# Altium footprint library Connector_PinSocket_2.00mm.PcbLib: 278 footprints (part 5 of 18)
Each footprint in its own frame and in the unit in brackets; x right, y up, seen from the top. Pads: shape width x height; smd on the part's side, far side on the other; paste and mask are expansions set on the pad; w line width, h text height; cw(c..) or ccw(c..) is an arc to the next point about the centre after c.
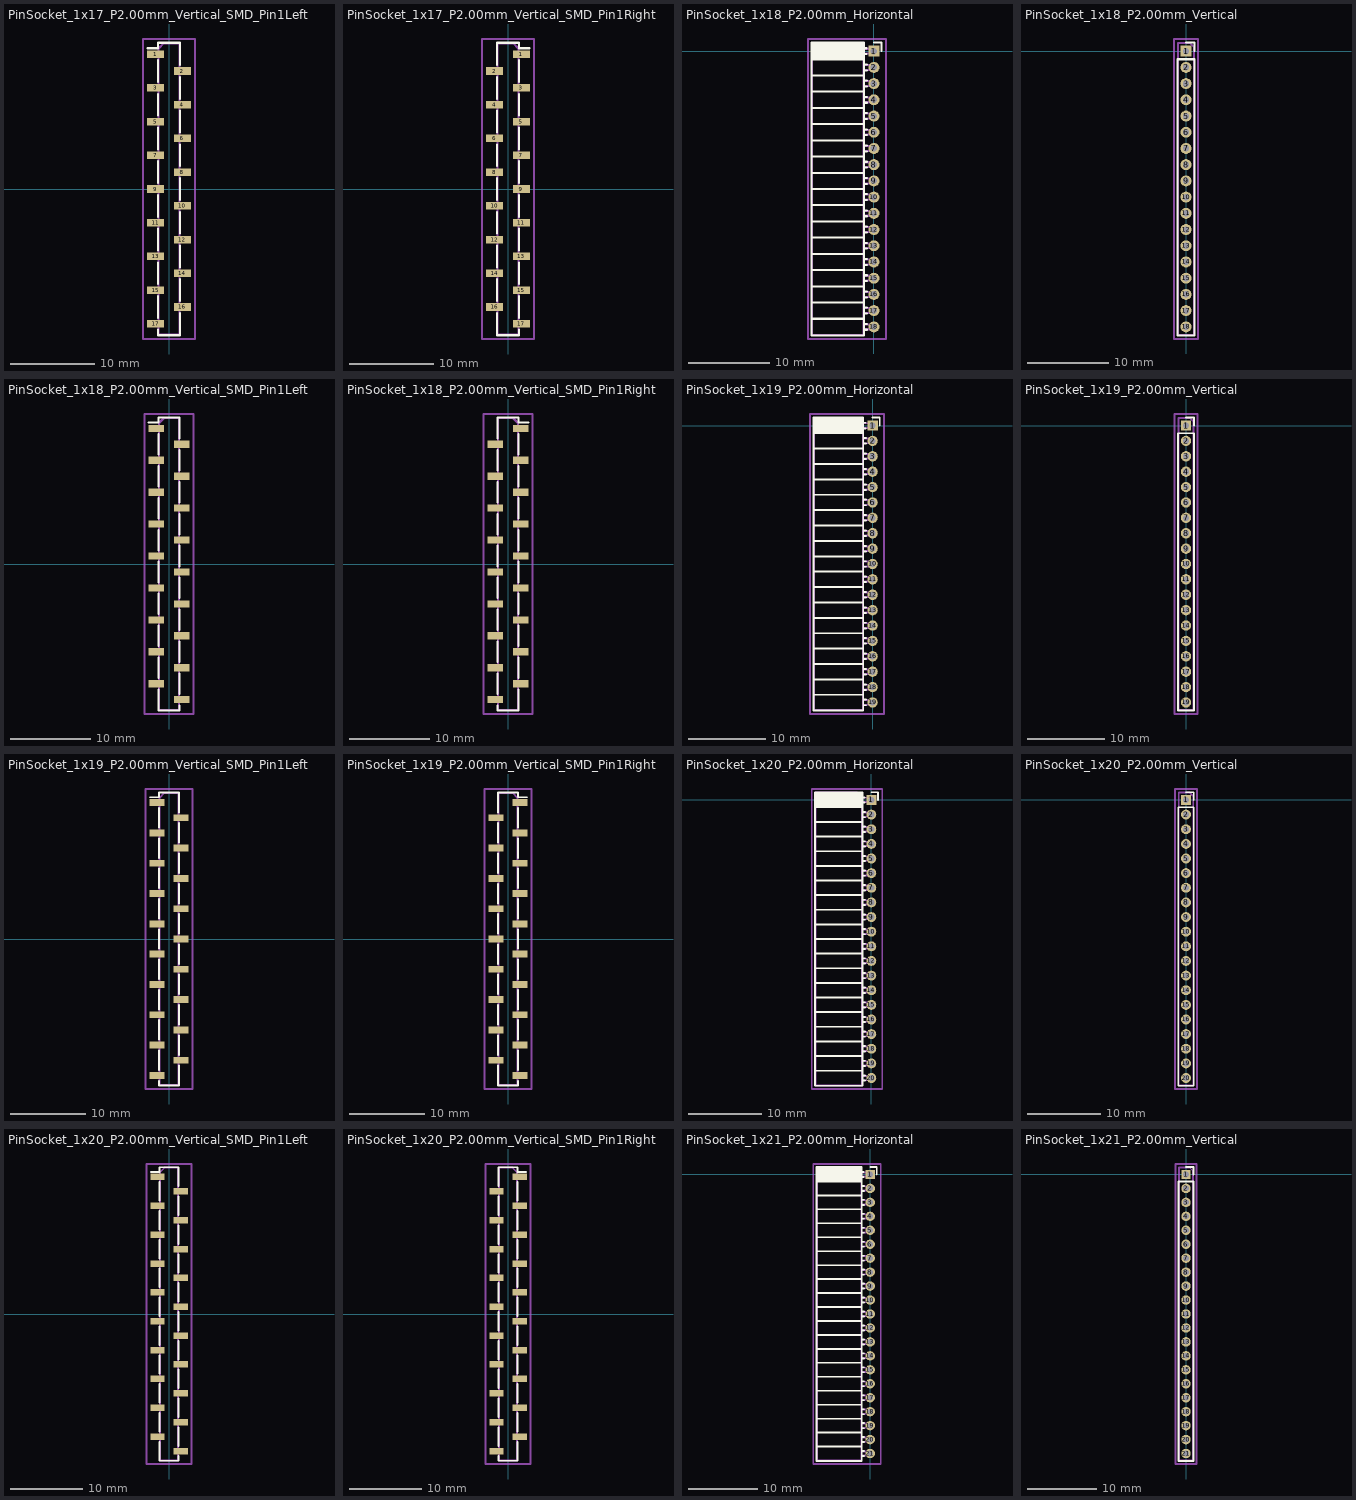
[diagram p4: the footprints below, top view; thin cyan lines are the x and y axes]

## PinSocket_1x17_P2.00mm_Vertical_SMD_Pin1Left [mm]
pads (17):
  rect 2x0.9 smd: 1(-1.6,16) 2(1.6,14) 3(-1.6,12) 4(1.6,10) 5(-1.6,8) 6(1.6,6) 7(-1.6,4) 8(1.6,2) 9(-1.6,0) 10(1.6,-2) 11(-1.6,-4) 12(1.6,-6) 13(-1.6,-8) 14(1.6,-10) 15(-1.6,-12) 16(1.6,-14) 17(-1.6,-16)
F.SilkS:
  lines w0.254: -2.54,16.71 -1.31,16.71 -1.31,17.36 1.31,17.36 1.31,14.71 ; -1.31,-16.71 -1.31,-17.36 1.31,-17.36 1.31,-14.71 ; -1.31,-15.29 -1.31,-12.71 ; -1.31,-11.29 -1.31,-8.71 ; -1.31,-7.29 -1.31,-4.71 ; -1.31,-3.29 -1.31,-0.71 ; -1.31,0.71 -1.31,3.29 ; -1.31,4.71 -1.31,7.29 ; -1.31,8.71 -1.31,11.29 ; -1.31,12.71 -1.31,15.29 ; 1.31,-13.29 1.31,-10.71 ; 1.31,-9.29 1.31,-6.71 ; 1.31,-5.29 1.31,-2.71 ; 1.31,-1.29 1.31,1.29 ; 1.31,2.71 1.31,5.29 ; 1.31,6.71 1.31,9.29 ; 1.31,10.71 1.31,13.29
Top Assembly:
  lines w0.254: -1.25,-16.25 -2.1,-16.25 -2.1,-15.75 -1.25,-15.75 ; -1.25,-12.25 -2.1,-12.25 -2.1,-11.75 -1.25,-11.75 ; -1.25,-8.25 -2.1,-8.25 -2.1,-7.75 -1.25,-7.75 ; -1.25,-4.25 -2.1,-4.25 -2.1,-3.75 -1.25,-3.75 ; -1.25,-0.25 -2.1,-0.25 -2.1,0.25 -1.25,0.25 ; -1.25,3.75 -2.1,3.75 -2.1,4.25 -1.25,4.25 ; -1.25,7.75 -2.1,7.75 -2.1,8.25 -1.25,8.25 ; -1.25,11.75 -2.1,11.75 -2.1,12.25 -1.25,12.25 ; -1.25,15.75 -2.1,15.75 -2.1,16.25 -1.25,16.25 ; 1.25,-14.25 2.1,-14.25 2.1,-13.75 1.25,-13.75 ; 1.25,-10.25 2.1,-10.25 2.1,-9.75 1.25,-9.75 ; 1.25,-6.25 2.1,-6.25 2.1,-5.75 1.25,-5.75 ; 1.25,-2.25 2.1,-2.25 2.1,-1.75 1.25,-1.75 ; 1.25,1.75 2.1,1.75 2.1,2.25 1.25,2.25 ; 1.25,5.75 2.1,5.75 2.1,6.25 1.25,6.25 ; 1.25,9.75 2.1,9.75 2.1,10.25 1.25,10.25 ; 1.25,13.75 2.1,13.75 2.1,14.25 1.25,14.25 ; -1.25,-17.3 1.25,-17.3 1.25,17.3 -0.625,17.3 -1.25,16.675 -1.25,-17.3
  text "'.Designator'" at 0.84,-4.047 h1
Top Courtyard:
  lines w0.254: -3.1,-17.8 3.1,-17.8 3.1,17.8 -3.1,17.8 -3.1,-17.8
Top Designator:
  text ".Designator" at -7.618,-0.508 h1.52

## PinSocket_1x17_P2.00mm_Vertical_SMD_Pin1Right [mm]
pads (17):
  rect 2x0.9 smd: 1(1.6,16) 2(-1.6,14) 3(1.6,12) 4(-1.6,10) 5(1.6,8) 6(-1.6,6) 7(1.6,4) 8(-1.6,2) 9(1.6,0) 10(-1.6,-2) 11(1.6,-4) 12(-1.6,-6) 13(1.6,-8) 14(-1.6,-10) 15(1.6,-12) 16(-1.6,-14) 17(1.6,-16)
F.SilkS:
  lines w0.254: -1.31,-14.71 -1.31,-17.36 1.31,-17.36 1.31,-16.71 ; -1.31,-13.29 -1.31,-10.71 ; -1.31,-9.29 -1.31,-6.71 ; -1.31,-5.29 -1.31,-2.71 ; -1.31,-1.29 -1.31,1.29 ; -1.31,2.71 -1.31,5.29 ; -1.31,6.71 -1.31,9.29 ; -1.31,10.71 -1.31,13.29 ; -1.31,14.71 -1.31,17.36 1.31,17.36 1.31,16.71 2.54,16.71 ; 1.31,-15.29 1.31,-12.71 ; 1.31,-11.29 1.31,-8.71 ; 1.31,-7.29 1.31,-4.71 ; 1.31,-3.29 1.31,-0.71 ; 1.31,0.71 1.31,3.29 ; 1.31,4.71 1.31,7.29 ; 1.31,8.71 1.31,11.29 ; 1.31,12.71 1.31,15.29
Top Assembly:
  lines w0.254: -1.25,-14.25 -2.1,-14.25 -2.1,-13.75 -1.25,-13.75 ; -1.25,-10.25 -2.1,-10.25 -2.1,-9.75 -1.25,-9.75 ; -1.25,-6.25 -2.1,-6.25 -2.1,-5.75 -1.25,-5.75 ; -1.25,-2.25 -2.1,-2.25 -2.1,-1.75 -1.25,-1.75 ; -1.25,1.75 -2.1,1.75 -2.1,2.25 -1.25,2.25 ; -1.25,5.75 -2.1,5.75 -2.1,6.25 -1.25,6.25 ; -1.25,9.75 -2.1,9.75 -2.1,10.25 -1.25,10.25 ; -1.25,13.75 -2.1,13.75 -2.1,14.25 -1.25,14.25 ; 1.25,-16.25 2.1,-16.25 2.1,-15.75 1.25,-15.75 ; 1.25,-12.25 2.1,-12.25 2.1,-11.75 1.25,-11.75 ; 1.25,-8.25 2.1,-8.25 2.1,-7.75 1.25,-7.75 ; 1.25,-4.25 2.1,-4.25 2.1,-3.75 1.25,-3.75 ; 1.25,-0.25 2.1,-0.25 2.1,0.25 1.25,0.25 ; 1.25,3.75 2.1,3.75 2.1,4.25 1.25,4.25 ; 1.25,7.75 2.1,7.75 2.1,8.25 1.25,8.25 ; 1.25,11.75 2.1,11.75 2.1,12.25 1.25,12.25 ; 1.25,15.75 2.1,15.75 2.1,16.25 1.25,16.25 ; -1.25,-17.3 1.25,-17.3 1.25,16.675 0.625,17.3 -1.25,17.3 -1.25,-17.3
  text "'.Designator'" at 0.84,-4.047 h1
Top Courtyard:
  lines w0.254: -3.1,-17.8 3.1,-17.8 3.1,17.8 -3.1,17.8 -3.1,-17.8
Top Designator:
  text ".Designator" at -7.618,-0.508 h1.52

## PinSocket_1x18_P2.00mm_Horizontal [mm]
pads (18):
  rect 1.35x1.35 hole 0.8: 1(0,0)
  round 1.35 hole 0.8: 2(0,-2) 3(0,-4) 4(0,-6) 5(0,-8) 6(0,-10) 7(0,-12) 8(0,-14) 9(0,-16) 10(0,-18) 11(0,-20) 12(0,-22) 13(0,-24) 14(0,-26) 15(0,-28) 16(0,-30) 17(0,-32) 18(0,-34)
F.SilkS:
  lines w0.254: -7.68,-33 -1.21,-33 ; -7.68,-31 -1.21,-31 ; -7.68,-29 -1.21,-29 ; -7.68,-27 -1.21,-27 ; -7.68,-25 -1.21,-25 ; -7.68,-23 -1.21,-23 ; -7.68,-21 -1.21,-21 ; -7.68,-19 -1.21,-19 ; -7.68,-17 -1.21,-17 ; -7.68,-15 -1.21,-15 ; -7.68,-13 -1.21,-13 ; -7.68,-11 -1.21,-11 ; -7.68,-9 -1.21,-9 ; -7.68,-7 -1.21,-7 ; -7.68,-5 -1.21,-5 ; -7.68,-3 -1.21,-3 ; -7.68,-1 -1.21,-1 ; -7.68,-0.886 -1.21,-0.886 ; -7.68,-0.772 -1.21,-0.772 ; -7.68,-0.658 -1.21,-0.658 ; -7.68,-0.544 -1.21,-0.544 ; -7.68,-0.429 -1.21,-0.429 ; -7.68,-0.315 -1.21,-0.315 ; -7.68,-0.201 -1.21,-0.201 ; -7.68,-0.087 -1.21,-0.087 ; -7.68,0.027 -1.21,0.027 ; -7.68,0.141 -1.21,0.141 ; -7.68,0.255 -1.21,0.255 ; -7.68,0.369 -1.21,0.369 ; -7.68,0.484 -1.21,0.484 ; -7.68,0.598 -1.21,0.598 ; -7.68,0.712 -1.21,0.712 ; -7.68,0.826 -1.21,0.826 ; -7.68,0.94 -1.21,0.94 ; -1.21,-34.36 -0.863,-34.36 ; -1.21,-33.64 -0.863,-33.64 ; -1.21,-32.36 -0.863,-32.36 ; -1.21,-31.64 -0.863,-31.64 ; -1.21,-30.36 -0.863,-30.36 ; -1.21,-29.64 -0.863,-29.64 ; -1.21,-28.36 -0.863,-28.36 ; -1.21,-27.64 -0.863,-27.64 ; -1.21,-26.36 -0.863,-26.36 ; -1.21,-25.64 -0.863,-25.64 ; -1.21,-24.36 -0.863,-24.36 ; -1.21,-23.64 -0.863,-23.64 ; -1.21,-22.36 -0.863,-22.36 ; -1.21,-21.64 -0.863,-21.64 ; -1.21,-20.36 -0.863,-20.36 ; -1.21,-19.64 -0.863,-19.64 ; -1.21,-18.36 -0.863,-18.36 ; -1.21,-17.64 -0.863,-17.64 ; -1.21,-16.36 -0.863,-16.36 ; -1.21,-15.64 -0.863,-15.64 ; -1.21,-14.36 -0.863,-14.36 ; -1.21,-13.64 -0.863,-13.64 ; -1.21,-12.36 -0.863,-12.36 ; -1.21,-11.64 -0.863,-11.64 ; -1.21,-10.36 -0.863,-10.36 ; -1.21,-9.64 -0.863,-9.64 ; -1.21,-8.36 -0.863,-8.36 ; -1.21,-7.64 -0.863,-7.64 ; -1.21,-6.36 -0.863,-6.36 ; -1.21,-5.64 -0.863,-5.64 ; -1.21,-4.36 -0.863,-4.36 ; -1.21,-3.64 -0.863,-3.64 ; -1.21,-2.36 -0.863,-2.36 ; -1.21,-1.64 -0.863,-1.64 ; -1.21,-0.36 -0.935,-0.36 ; -1.21,0.36 -0.935,0.36 ; 0,1.06 0.935,1.06 0.935,0 ; -7.68,-35.06 -1.21,-35.06 -1.21,1.06 -7.68,1.06 -7.68,-35.06
Top Assembly:
  lines w0.254: -1.27,-34.3 0,-34.3 0,-33.7 -1.27,-33.7 ; -1.27,-32.3 0,-32.3 0,-31.7 -1.27,-31.7 ; -1.27,-30.3 0,-30.3 0,-29.7 -1.27,-29.7 ; -1.27,-28.3 0,-28.3 0,-27.7 -1.27,-27.7 ; -1.27,-26.3 0,-26.3 0,-25.7 -1.27,-25.7 ; -1.27,-24.3 0,-24.3 0,-23.7 -1.27,-23.7 ; -1.27,-22.3 0,-22.3 0,-21.7 -1.27,-21.7 ; -1.27,-20.3 0,-20.3 0,-19.7 -1.27,-19.7 ; -1.27,-18.3 0,-18.3 0,-17.7 -1.27,-17.7 ; -1.27,-16.3 0,-16.3 0,-15.7 -1.27,-15.7 ; -1.27,-14.3 0,-14.3 0,-13.7 -1.27,-13.7 ; -1.27,-12.3 0,-12.3 0,-11.7 -1.27,-11.7 ; -1.27,-10.3 0,-10.3 0,-9.7 -1.27,-9.7 ; -1.27,-8.3 0,-8.3 0,-7.7 -1.27,-7.7 ; -1.27,-6.3 0,-6.3 0,-5.7 -1.27,-5.7 ; -1.27,-4.3 0,-4.3 0,-3.7 -1.27,-3.7 ; -1.27,-2.3 0,-2.3 0,-1.7 -1.27,-1.7 ; -1.27,-0.3 0,-0.3 0,0.3 -1.27,0.3 ; -1.27,0.3 -1.27,-35 -7.62,-35 -7.62,1 -1.97,1 -1.27,0.3
  text "'.Designator'" at -3.605,-21.047 h1
Top Courtyard:
  lines w0.254: -8.15,-35.5 1.5,-35.5 1.5,1.5 -8.15,1.5 -8.15,-35.5
Top Designator:
  text ".Designator" at -10.943,-17.508 h1.52

## PinSocket_1x18_P2.00mm_Vertical [mm]
pads (18):
  rect 1.35x1.35 hole 0.8: 1(0,0)
  round 1.35 hole 0.8: 2(0,-2) 3(0,-4) 4(0,-6) 5(0,-8) 6(0,-10) 7(0,-12) 8(0,-14) 9(0,-16) 10(0,-18) 11(0,-20) 12(0,-22) 13(0,-24) 14(0,-26) 15(0,-28) 16(0,-30) 17(0,-32) 18(0,-34)
F.SilkS:
  lines w0.254: 0,1.06 1.06,1.06 1.06,0 ; -1.06,-35.06 1.06,-35.06 1.06,-1 -1.06,-1 -1.06,-35.06
Top Assembly:
  lines w0.254: -1,-35 1,-35 1,0.5 0.5,1 -1,1 -1,-35
  text "'.Designator'" at 0.84,-21.047 h1
Top Courtyard:
  lines w0.254: -1.5,-35.5 1.5,-35.5 1.5,1.5 -1.5,1.5 -1.5,-35.5
Top Designator:
  text ".Designator" at -7.618,-17.508 h1.52

## PinSocket_1x18_P2.00mm_Vertical_SMD_Pin1Left [mm]
pads (18):
  rect 2x0.9 smd: 1(-1.6,17) 2(1.6,15) 3(-1.6,13) 4(1.6,11) 5(-1.6,9) 6(1.6,7) 7(-1.6,5) 8(1.6,3) 9(-1.6,1) 10(1.6,-1) 11(-1.6,-3) 12(1.6,-5) 13(-1.6,-7) 14(1.6,-9) 15(-1.6,-11) 16(1.6,-13) 17(-1.6,-15) 18(1.6,-17)
F.SilkS:
  lines w0.254: -2.54,17.71 -1.31,17.71 -1.31,18.36 1.31,18.36 1.31,15.71 ; -1.31,-15.71 -1.31,-18.36 1.31,-18.36 1.31,-17.71 ; -1.31,-14.29 -1.31,-11.71 ; -1.31,-10.29 -1.31,-7.71 ; -1.31,-6.29 -1.31,-3.71 ; -1.31,-2.29 -1.31,0.29 ; -1.31,1.71 -1.31,4.29 ; -1.31,5.71 -1.31,8.29 ; -1.31,9.71 -1.31,12.29 ; -1.31,13.71 -1.31,16.29 ; 1.31,-16.29 1.31,-13.71 ; 1.31,-12.29 1.31,-9.71 ; 1.31,-8.29 1.31,-5.71 ; 1.31,-4.29 1.31,-1.71 ; 1.31,-0.29 1.31,2.29 ; 1.31,3.71 1.31,6.29 ; 1.31,7.71 1.31,10.29 ; 1.31,11.71 1.31,14.29
Top Assembly:
  lines w0.254: -1.25,-15.25 -2.1,-15.25 -2.1,-14.75 -1.25,-14.75 ; -1.25,-11.25 -2.1,-11.25 -2.1,-10.75 -1.25,-10.75 ; -1.25,-7.25 -2.1,-7.25 -2.1,-6.75 -1.25,-6.75 ; -1.25,-3.25 -2.1,-3.25 -2.1,-2.75 -1.25,-2.75 ; -1.25,0.75 -2.1,0.75 -2.1,1.25 -1.25,1.25 ; -1.25,4.75 -2.1,4.75 -2.1,5.25 -1.25,5.25 ; -1.25,8.75 -2.1,8.75 -2.1,9.25 -1.25,9.25 ; -1.25,12.75 -2.1,12.75 -2.1,13.25 -1.25,13.25 ; -1.25,16.75 -2.1,16.75 -2.1,17.25 -1.25,17.25 ; 1.25,-17.25 2.1,-17.25 2.1,-16.75 1.25,-16.75 ; 1.25,-13.25 2.1,-13.25 2.1,-12.75 1.25,-12.75 ; 1.25,-9.25 2.1,-9.25 2.1,-8.75 1.25,-8.75 ; 1.25,-5.25 2.1,-5.25 2.1,-4.75 1.25,-4.75 ; 1.25,-1.25 2.1,-1.25 2.1,-0.75 1.25,-0.75 ; 1.25,2.75 2.1,2.75 2.1,3.25 1.25,3.25 ; 1.25,6.75 2.1,6.75 2.1,7.25 1.25,7.25 ; 1.25,10.75 2.1,10.75 2.1,11.25 1.25,11.25 ; 1.25,14.75 2.1,14.75 2.1,15.25 1.25,15.25 ; -1.25,-18.3 1.25,-18.3 1.25,18.3 -0.625,18.3 -1.25,17.675 -1.25,-18.3
  text "'.Designator'" at 0.84,-4.047 h1
Top Courtyard:
  lines w0.254: -3.1,-18.8 3.1,-18.8 3.1,18.8 -3.1,18.8 -3.1,-18.8
Top Designator:
  text ".Designator" at -7.618,-0.508 h1.52

## PinSocket_1x18_P2.00mm_Vertical_SMD_Pin1Right [mm]
pads (18):
  rect 2x0.9 smd: 1(1.6,17) 2(-1.6,15) 3(1.6,13) 4(-1.6,11) 5(1.6,9) 6(-1.6,7) 7(1.6,5) 8(-1.6,3) 9(1.6,1) 10(-1.6,-1) 11(1.6,-3) 12(-1.6,-5) 13(1.6,-7) 14(-1.6,-9) 15(1.6,-11) 16(-1.6,-13) 17(1.6,-15) 18(-1.6,-17)
F.SilkS:
  lines w0.254: -1.31,-17.71 -1.31,-18.36 1.31,-18.36 1.31,-15.71 ; -1.31,-16.29 -1.31,-13.71 ; -1.31,-12.29 -1.31,-9.71 ; -1.31,-8.29 -1.31,-5.71 ; -1.31,-4.29 -1.31,-1.71 ; -1.31,-0.29 -1.31,2.29 ; -1.31,3.71 -1.31,6.29 ; -1.31,7.71 -1.31,10.29 ; -1.31,11.71 -1.31,14.29 ; -1.31,15.71 -1.31,18.36 1.31,18.36 1.31,17.71 2.54,17.71 ; 1.31,-14.29 1.31,-11.71 ; 1.31,-10.29 1.31,-7.71 ; 1.31,-6.29 1.31,-3.71 ; 1.31,-2.29 1.31,0.29 ; 1.31,1.71 1.31,4.29 ; 1.31,5.71 1.31,8.29 ; 1.31,9.71 1.31,12.29 ; 1.31,13.71 1.31,16.29
Top Assembly:
  lines w0.254: -1.25,-17.25 -2.1,-17.25 -2.1,-16.75 -1.25,-16.75 ; -1.25,-13.25 -2.1,-13.25 -2.1,-12.75 -1.25,-12.75 ; -1.25,-9.25 -2.1,-9.25 -2.1,-8.75 -1.25,-8.75 ; -1.25,-5.25 -2.1,-5.25 -2.1,-4.75 -1.25,-4.75 ; -1.25,-1.25 -2.1,-1.25 -2.1,-0.75 -1.25,-0.75 ; -1.25,2.75 -2.1,2.75 -2.1,3.25 -1.25,3.25 ; -1.25,6.75 -2.1,6.75 -2.1,7.25 -1.25,7.25 ; -1.25,10.75 -2.1,10.75 -2.1,11.25 -1.25,11.25 ; -1.25,14.75 -2.1,14.75 -2.1,15.25 -1.25,15.25 ; 1.25,-15.25 2.1,-15.25 2.1,-14.75 1.25,-14.75 ; 1.25,-11.25 2.1,-11.25 2.1,-10.75 1.25,-10.75 ; 1.25,-7.25 2.1,-7.25 2.1,-6.75 1.25,-6.75 ; 1.25,-3.25 2.1,-3.25 2.1,-2.75 1.25,-2.75 ; 1.25,0.75 2.1,0.75 2.1,1.25 1.25,1.25 ; 1.25,4.75 2.1,4.75 2.1,5.25 1.25,5.25 ; 1.25,8.75 2.1,8.75 2.1,9.25 1.25,9.25 ; 1.25,12.75 2.1,12.75 2.1,13.25 1.25,13.25 ; 1.25,16.75 2.1,16.75 2.1,17.25 1.25,17.25 ; -1.25,-18.3 1.25,-18.3 1.25,17.675 0.625,18.3 -1.25,18.3 -1.25,-18.3
  text "'.Designator'" at 0.84,-4.047 h1
Top Courtyard:
  lines w0.254: -3.1,-18.8 3.1,-18.8 3.1,18.8 -3.1,18.8 -3.1,-18.8
Top Designator:
  text ".Designator" at -7.618,-0.508 h1.52

## PinSocket_1x19_P2.00mm_Horizontal [mm]
pads (19):
  rect 1.35x1.35 hole 0.8: 1(0,0)
  round 1.35 hole 0.8: 2(0,-2) 3(0,-4) 4(0,-6) 5(0,-8) 6(0,-10) 7(0,-12) 8(0,-14) 9(0,-16) 10(0,-18) 11(0,-20) 12(0,-22) 13(0,-24) 14(0,-26) 15(0,-28) 16(0,-30) 17(0,-32) 18(0,-34) 19(0,-36)
F.SilkS:
  lines w0.254: -7.68,-35 -1.21,-35 ; -7.68,-33 -1.21,-33 ; -7.68,-31 -1.21,-31 ; -7.68,-29 -1.21,-29 ; -7.68,-27 -1.21,-27 ; -7.68,-25 -1.21,-25 ; -7.68,-23 -1.21,-23 ; -7.68,-21 -1.21,-21 ; -7.68,-19 -1.21,-19 ; -7.68,-17 -1.21,-17 ; -7.68,-15 -1.21,-15 ; -7.68,-13 -1.21,-13 ; -7.68,-11 -1.21,-11 ; -7.68,-9 -1.21,-9 ; -7.68,-7 -1.21,-7 ; -7.68,-5 -1.21,-5 ; -7.68,-3 -1.21,-3 ; -7.68,-1 -1.21,-1 ; -7.68,-0.886 -1.21,-0.886 ; -7.68,-0.772 -1.21,-0.772 ; -7.68,-0.658 -1.21,-0.658 ; -7.68,-0.544 -1.21,-0.544 ; -7.68,-0.429 -1.21,-0.429 ; -7.68,-0.315 -1.21,-0.315 ; -7.68,-0.201 -1.21,-0.201 ; -7.68,-0.087 -1.21,-0.087 ; -7.68,0.027 -1.21,0.027 ; -7.68,0.141 -1.21,0.141 ; -7.68,0.255 -1.21,0.255 ; -7.68,0.369 -1.21,0.369 ; -7.68,0.484 -1.21,0.484 ; -7.68,0.598 -1.21,0.598 ; -7.68,0.712 -1.21,0.712 ; -7.68,0.826 -1.21,0.826 ; -7.68,0.94 -1.21,0.94 ; -1.21,-36.36 -0.863,-36.36 ; -1.21,-35.64 -0.863,-35.64 ; -1.21,-34.36 -0.863,-34.36 ; -1.21,-33.64 -0.863,-33.64 ; -1.21,-32.36 -0.863,-32.36 ; -1.21,-31.64 -0.863,-31.64 ; -1.21,-30.36 -0.863,-30.36 ; -1.21,-29.64 -0.863,-29.64 ; -1.21,-28.36 -0.863,-28.36 ; -1.21,-27.64 -0.863,-27.64 ; -1.21,-26.36 -0.863,-26.36 ; -1.21,-25.64 -0.863,-25.64 ; -1.21,-24.36 -0.863,-24.36 ; -1.21,-23.64 -0.863,-23.64 ; -1.21,-22.36 -0.863,-22.36 ; -1.21,-21.64 -0.863,-21.64 ; -1.21,-20.36 -0.863,-20.36 ; -1.21,-19.64 -0.863,-19.64 ; -1.21,-18.36 -0.863,-18.36 ; -1.21,-17.64 -0.863,-17.64 ; -1.21,-16.36 -0.863,-16.36 ; -1.21,-15.64 -0.863,-15.64 ; -1.21,-14.36 -0.863,-14.36 ; -1.21,-13.64 -0.863,-13.64 ; -1.21,-12.36 -0.863,-12.36 ; -1.21,-11.64 -0.863,-11.64 ; -1.21,-10.36 -0.863,-10.36 ; -1.21,-9.64 -0.863,-9.64 ; -1.21,-8.36 -0.863,-8.36 ; -1.21,-7.64 -0.863,-7.64 ; -1.21,-6.36 -0.863,-6.36 ; -1.21,-5.64 -0.863,-5.64 ; -1.21,-4.36 -0.863,-4.36 ; -1.21,-3.64 -0.863,-3.64 ; -1.21,-2.36 -0.863,-2.36 ; -1.21,-1.64 -0.863,-1.64 ; -1.21,-0.36 -0.935,-0.36 ; -1.21,0.36 -0.935,0.36 ; 0,1.06 0.935,1.06 0.935,0 ; -7.68,-37.06 -1.21,-37.06 -1.21,1.06 -7.68,1.06 -7.68,-37.06
Top Assembly:
  lines w0.254: -1.27,-36.3 0,-36.3 0,-35.7 -1.27,-35.7 ; -1.27,-34.3 0,-34.3 0,-33.7 -1.27,-33.7 ; -1.27,-32.3 0,-32.3 0,-31.7 -1.27,-31.7 ; -1.27,-30.3 0,-30.3 0,-29.7 -1.27,-29.7 ; -1.27,-28.3 0,-28.3 0,-27.7 -1.27,-27.7 ; -1.27,-26.3 0,-26.3 0,-25.7 -1.27,-25.7 ; -1.27,-24.3 0,-24.3 0,-23.7 -1.27,-23.7 ; -1.27,-22.3 0,-22.3 0,-21.7 -1.27,-21.7 ; -1.27,-20.3 0,-20.3 0,-19.7 -1.27,-19.7 ; -1.27,-18.3 0,-18.3 0,-17.7 -1.27,-17.7 ; -1.27,-16.3 0,-16.3 0,-15.7 -1.27,-15.7 ; -1.27,-14.3 0,-14.3 0,-13.7 -1.27,-13.7 ; -1.27,-12.3 0,-12.3 0,-11.7 -1.27,-11.7 ; -1.27,-10.3 0,-10.3 0,-9.7 -1.27,-9.7 ; -1.27,-8.3 0,-8.3 0,-7.7 -1.27,-7.7 ; -1.27,-6.3 0,-6.3 0,-5.7 -1.27,-5.7 ; -1.27,-4.3 0,-4.3 0,-3.7 -1.27,-3.7 ; -1.27,-2.3 0,-2.3 0,-1.7 -1.27,-1.7 ; -1.27,-0.3 0,-0.3 0,0.3 -1.27,0.3 ; -1.27,0.3 -1.27,-37 -7.62,-37 -7.62,1 -1.97,1 -1.27,0.3
  text "'.Designator'" at -3.605,-22.047 h1
Top Courtyard:
  lines w0.254: -8.15,-37.5 1.5,-37.5 1.5,1.5 -8.15,1.5 -8.15,-37.5
Top Designator:
  text ".Designator" at -10.943,-18.508 h1.52

## PinSocket_1x19_P2.00mm_Vertical [mm]
pads (19):
  rect 1.35x1.35 hole 0.8: 1(0,0)
  round 1.35 hole 0.8: 2(0,-2) 3(0,-4) 4(0,-6) 5(0,-8) 6(0,-10) 7(0,-12) 8(0,-14) 9(0,-16) 10(0,-18) 11(0,-20) 12(0,-22) 13(0,-24) 14(0,-26) 15(0,-28) 16(0,-30) 17(0,-32) 18(0,-34) 19(0,-36)
F.SilkS:
  lines w0.254: 0,1.06 1.06,1.06 1.06,0 ; -1.06,-37.06 1.06,-37.06 1.06,-1 -1.06,-1 -1.06,-37.06
Top Assembly:
  lines w0.254: -1,-37 1,-37 1,0.5 0.5,1 -1,1 -1,-37
  text "'.Designator'" at 0.84,-22.047 h1
Top Courtyard:
  lines w0.254: -1.5,-37.5 1.5,-37.5 1.5,1.5 -1.5,1.5 -1.5,-37.5
Top Designator:
  text ".Designator" at -7.618,-18.508 h1.52

## PinSocket_1x19_P2.00mm_Vertical_SMD_Pin1Left [mm]
pads (19):
  rect 2x0.9 smd: 1(-1.6,18) 2(1.6,16) 3(-1.6,14) 4(1.6,12) 5(-1.6,10) 6(1.6,8) 7(-1.6,6) 8(1.6,4) 9(-1.6,2) 10(1.6,0) 11(-1.6,-2) 12(1.6,-4) 13(-1.6,-6) 14(1.6,-8) 15(-1.6,-10) 16(1.6,-12) 17(-1.6,-14) 18(1.6,-16) 19(-1.6,-18)
F.SilkS:
  lines w0.254: -2.54,18.71 -1.31,18.71 -1.31,19.36 1.31,19.36 1.31,16.71 ; -1.31,-18.71 -1.31,-19.36 1.31,-19.36 1.31,-16.71 ; -1.31,-17.29 -1.31,-14.71 ; -1.31,-13.29 -1.31,-10.71 ; -1.31,-9.29 -1.31,-6.71 ; -1.31,-5.29 -1.31,-2.71 ; -1.31,-1.29 -1.31,1.29 ; -1.31,2.71 -1.31,5.29 ; -1.31,6.71 -1.31,9.29 ; -1.31,10.71 -1.31,13.29 ; -1.31,14.71 -1.31,17.29 ; 1.31,-15.29 1.31,-12.71 ; 1.31,-11.29 1.31,-8.71 ; 1.31,-7.29 1.31,-4.71 ; 1.31,-3.29 1.31,-0.71 ; 1.31,0.71 1.31,3.29 ; 1.31,4.71 1.31,7.29 ; 1.31,8.71 1.31,11.29 ; 1.31,12.71 1.31,15.29
Top Assembly:
  lines w0.254: -1.25,-18.25 -2.1,-18.25 -2.1,-17.75 -1.25,-17.75 ; -1.25,-14.25 -2.1,-14.25 -2.1,-13.75 -1.25,-13.75 ; -1.25,-10.25 -2.1,-10.25 -2.1,-9.75 -1.25,-9.75 ; -1.25,-6.25 -2.1,-6.25 -2.1,-5.75 -1.25,-5.75 ; -1.25,-2.25 -2.1,-2.25 -2.1,-1.75 -1.25,-1.75 ; -1.25,1.75 -2.1,1.75 -2.1,2.25 -1.25,2.25 ; -1.25,5.75 -2.1,5.75 -2.1,6.25 -1.25,6.25 ; -1.25,9.75 -2.1,9.75 -2.1,10.25 -1.25,10.25 ; -1.25,13.75 -2.1,13.75 -2.1,14.25 -1.25,14.25 ; -1.25,17.75 -2.1,17.75 -2.1,18.25 -1.25,18.25 ; 1.25,-16.25 2.1,-16.25 2.1,-15.75 1.25,-15.75 ; 1.25,-12.25 2.1,-12.25 2.1,-11.75 1.25,-11.75 ; 1.25,-8.25 2.1,-8.25 2.1,-7.75 1.25,-7.75 ; 1.25,-4.25 2.1,-4.25 2.1,-3.75 1.25,-3.75 ; 1.25,-0.25 2.1,-0.25 2.1,0.25 1.25,0.25 ; 1.25,3.75 2.1,3.75 2.1,4.25 1.25,4.25 ; 1.25,7.75 2.1,7.75 2.1,8.25 1.25,8.25 ; 1.25,11.75 2.1,11.75 2.1,12.25 1.25,12.25 ; 1.25,15.75 2.1,15.75 2.1,16.25 1.25,16.25 ; -1.25,-19.3 1.25,-19.3 1.25,19.3 -0.625,19.3 -1.25,18.675 -1.25,-19.3
  text "'.Designator'" at 0.84,-4.047 h1
Top Courtyard:
  lines w0.254: -3.1,-19.8 3.1,-19.8 3.1,19.8 -3.1,19.8 -3.1,-19.8
Top Designator:
  text ".Designator" at -7.618,-0.508 h1.52

## PinSocket_1x19_P2.00mm_Vertical_SMD_Pin1Right [mm]
pads (19):
  rect 2x0.9 smd: 1(1.6,18) 2(-1.6,16) 3(1.6,14) 4(-1.6,12) 5(1.6,10) 6(-1.6,8) 7(1.6,6) 8(-1.6,4) 9(1.6,2) 10(-1.6,0) 11(1.6,-2) 12(-1.6,-4) 13(1.6,-6) 14(-1.6,-8) 15(1.6,-10) 16(-1.6,-12) 17(1.6,-14) 18(-1.6,-16) 19(1.6,-18)
F.SilkS:
  lines w0.254: -1.31,-16.71 -1.31,-19.36 1.31,-19.36 1.31,-18.71 ; -1.31,-15.29 -1.31,-12.71 ; -1.31,-11.29 -1.31,-8.71 ; -1.31,-7.29 -1.31,-4.71 ; -1.31,-3.29 -1.31,-0.71 ; -1.31,0.71 -1.31,3.29 ; -1.31,4.71 -1.31,7.29 ; -1.31,8.71 -1.31,11.29 ; -1.31,12.71 -1.31,15.29 ; -1.31,16.71 -1.31,19.36 1.31,19.36 1.31,18.71 2.54,18.71 ; 1.31,-17.29 1.31,-14.71 ; 1.31,-13.29 1.31,-10.71 ; 1.31,-9.29 1.31,-6.71 ; 1.31,-5.29 1.31,-2.71 ; 1.31,-1.29 1.31,1.29 ; 1.31,2.71 1.31,5.29 ; 1.31,6.71 1.31,9.29 ; 1.31,10.71 1.31,13.29 ; 1.31,14.71 1.31,17.29
Top Assembly:
  lines w0.254: -1.25,-16.25 -2.1,-16.25 -2.1,-15.75 -1.25,-15.75 ; -1.25,-12.25 -2.1,-12.25 -2.1,-11.75 -1.25,-11.75 ; -1.25,-8.25 -2.1,-8.25 -2.1,-7.75 -1.25,-7.75 ; -1.25,-4.25 -2.1,-4.25 -2.1,-3.75 -1.25,-3.75 ; -1.25,-0.25 -2.1,-0.25 -2.1,0.25 -1.25,0.25 ; -1.25,3.75 -2.1,3.75 -2.1,4.25 -1.25,4.25 ; -1.25,7.75 -2.1,7.75 -2.1,8.25 -1.25,8.25 ; -1.25,11.75 -2.1,11.75 -2.1,12.25 -1.25,12.25 ; -1.25,15.75 -2.1,15.75 -2.1,16.25 -1.25,16.25 ; 1.25,-18.25 2.1,-18.25 2.1,-17.75 1.25,-17.75 ; 1.25,-14.25 2.1,-14.25 2.1,-13.75 1.25,-13.75 ; 1.25,-10.25 2.1,-10.25 2.1,-9.75 1.25,-9.75 ; 1.25,-6.25 2.1,-6.25 2.1,-5.75 1.25,-5.75 ; 1.25,-2.25 2.1,-2.25 2.1,-1.75 1.25,-1.75 ; 1.25,1.75 2.1,1.75 2.1,2.25 1.25,2.25 ; 1.25,5.75 2.1,5.75 2.1,6.25 1.25,6.25 ; 1.25,9.75 2.1,9.75 2.1,10.25 1.25,10.25 ; 1.25,13.75 2.1,13.75 2.1,14.25 1.25,14.25 ; 1.25,17.75 2.1,17.75 2.1,18.25 1.25,18.25 ; -1.25,-19.3 1.25,-19.3 1.25,18.675 0.625,19.3 -1.25,19.3 -1.25,-19.3
  text "'.Designator'" at 0.84,-4.047 h1
Top Courtyard:
  lines w0.254: -3.1,-19.8 3.1,-19.8 3.1,19.8 -3.1,19.8 -3.1,-19.8
Top Designator:
  text ".Designator" at -7.618,-0.508 h1.52

## PinSocket_1x20_P2.00mm_Horizontal [mm]
pads (20):
  rect 1.35x1.35 hole 0.8: 1(0,0)
  round 1.35 hole 0.8: 2(0,-2) 3(0,-4) 4(0,-6) 5(0,-8) 6(0,-10) 7(0,-12) 8(0,-14) 9(0,-16) 10(0,-18) 11(0,-20) 12(0,-22) 13(0,-24) 14(0,-26) 15(0,-28) 16(0,-30) 17(0,-32) 18(0,-34) 19(0,-36) 20(0,-38)
F.SilkS:
  lines w0.254: -7.68,-37 -1.21,-37 ; -7.68,-35 -1.21,-35 ; -7.68,-33 -1.21,-33 ; -7.68,-31 -1.21,-31 ; -7.68,-29 -1.21,-29 ; -7.68,-27 -1.21,-27 ; -7.68,-25 -1.21,-25 ; -7.68,-23 -1.21,-23 ; -7.68,-21 -1.21,-21 ; -7.68,-19 -1.21,-19 ; -7.68,-17 -1.21,-17 ; -7.68,-15 -1.21,-15 ; -7.68,-13 -1.21,-13 ; -7.68,-11 -1.21,-11 ; -7.68,-9 -1.21,-9 ; -7.68,-7 -1.21,-7 ; -7.68,-5 -1.21,-5 ; -7.68,-3 -1.21,-3 ; -7.68,-1 -1.21,-1 ; -7.68,-0.886 -1.21,-0.886 ; -7.68,-0.772 -1.21,-0.772 ; -7.68,-0.658 -1.21,-0.658 ; -7.68,-0.544 -1.21,-0.544 ; -7.68,-0.429 -1.21,-0.429 ; -7.68,-0.315 -1.21,-0.315 ; -7.68,-0.201 -1.21,-0.201 ; -7.68,-0.087 -1.21,-0.087 ; -7.68,0.027 -1.21,0.027 ; -7.68,0.141 -1.21,0.141 ; -7.68,0.255 -1.21,0.255 ; -7.68,0.369 -1.21,0.369 ; -7.68,0.484 -1.21,0.484 ; -7.68,0.598 -1.21,0.598 ; -7.68,0.712 -1.21,0.712 ; -7.68,0.826 -1.21,0.826 ; -7.68,0.94 -1.21,0.94 ; -1.21,-38.36 -0.863,-38.36 ; -1.21,-37.64 -0.863,-37.64 ; -1.21,-36.36 -0.863,-36.36 ; -1.21,-35.64 -0.863,-35.64 ; -1.21,-34.36 -0.863,-34.36 ; -1.21,-33.64 -0.863,-33.64 ; -1.21,-32.36 -0.863,-32.36 ; -1.21,-31.64 -0.863,-31.64 ; -1.21,-30.36 -0.863,-30.36 ; -1.21,-29.64 -0.863,-29.64 ; -1.21,-28.36 -0.863,-28.36 ; -1.21,-27.64 -0.863,-27.64 ; -1.21,-26.36 -0.863,-26.36 ; -1.21,-25.64 -0.863,-25.64 ; -1.21,-24.36 -0.863,-24.36 ; -1.21,-23.64 -0.863,-23.64 ; -1.21,-22.36 -0.863,-22.36 ; -1.21,-21.64 -0.863,-21.64 ; -1.21,-20.36 -0.863,-20.36 ; -1.21,-19.64 -0.863,-19.64 ; -1.21,-18.36 -0.863,-18.36 ; -1.21,-17.64 -0.863,-17.64 ; -1.21,-16.36 -0.863,-16.36 ; -1.21,-15.64 -0.863,-15.64 ; -1.21,-14.36 -0.863,-14.36 ; -1.21,-13.64 -0.863,-13.64 ; -1.21,-12.36 -0.863,-12.36 ; -1.21,-11.64 -0.863,-11.64 ; -1.21,-10.36 -0.863,-10.36 ; -1.21,-9.64 -0.863,-9.64 ; -1.21,-8.36 -0.863,-8.36 ; -1.21,-7.64 -0.863,-7.64 ; -1.21,-6.36 -0.863,-6.36 ; -1.21,-5.64 -0.863,-5.64 ; -1.21,-4.36 -0.863,-4.36 ; -1.21,-3.64 -0.863,-3.64 ; -1.21,-2.36 -0.863,-2.36 ; -1.21,-1.64 -0.863,-1.64 ; -1.21,-0.36 -0.935,-0.36 ; -1.21,0.36 -0.935,0.36 ; 0,1.06 0.935,1.06 0.935,0 ; -7.68,-39.06 -1.21,-39.06 -1.21,1.06 -7.68,1.06 -7.68,-39.06
Top Assembly:
  lines w0.254: -1.27,-38.3 0,-38.3 0,-37.7 -1.27,-37.7 ; -1.27,-36.3 0,-36.3 0,-35.7 -1.27,-35.7 ; -1.27,-34.3 0,-34.3 0,-33.7 -1.27,-33.7 ; -1.27,-32.3 0,-32.3 0,-31.7 -1.27,-31.7 ; -1.27,-30.3 0,-30.3 0,-29.7 -1.27,-29.7 ; -1.27,-28.3 0,-28.3 0,-27.7 -1.27,-27.7 ; -1.27,-26.3 0,-26.3 0,-25.7 -1.27,-25.7 ; -1.27,-24.3 0,-24.3 0,-23.7 -1.27,-23.7 ; -1.27,-22.3 0,-22.3 0,-21.7 -1.27,-21.7 ; -1.27,-20.3 0,-20.3 0,-19.7 -1.27,-19.7 ; -1.27,-18.3 0,-18.3 0,-17.7 -1.27,-17.7 ; -1.27,-16.3 0,-16.3 0,-15.7 -1.27,-15.7 ; -1.27,-14.3 0,-14.3 0,-13.7 -1.27,-13.7 ; -1.27,-12.3 0,-12.3 0,-11.7 -1.27,-11.7 ; -1.27,-10.3 0,-10.3 0,-9.7 -1.27,-9.7 ; -1.27,-8.3 0,-8.3 0,-7.7 -1.27,-7.7 ; -1.27,-6.3 0,-6.3 0,-5.7 -1.27,-5.7 ; -1.27,-4.3 0,-4.3 0,-3.7 -1.27,-3.7 ; -1.27,-2.3 0,-2.3 0,-1.7 -1.27,-1.7 ; -1.27,-0.3 0,-0.3 0,0.3 -1.27,0.3 ; -1.27,0.3 -1.27,-39 -7.62,-39 -7.62,1 -1.97,1 -1.27,0.3
  text "'.Designator'" at -3.605,-23.047 h1
Top Courtyard:
  lines w0.254: -8.15,-39.5 1.5,-39.5 1.5,1.5 -8.15,1.5 -8.15,-39.5
Top Designator:
  text ".Designator" at -10.943,-19.508 h1.52

## PinSocket_1x20_P2.00mm_Vertical [mm]
pads (20):
  rect 1.35x1.35 hole 0.8: 1(0,0)
  round 1.35 hole 0.8: 2(0,-2) 3(0,-4) 4(0,-6) 5(0,-8) 6(0,-10) 7(0,-12) 8(0,-14) 9(0,-16) 10(0,-18) 11(0,-20) 12(0,-22) 13(0,-24) 14(0,-26) 15(0,-28) 16(0,-30) 17(0,-32) 18(0,-34) 19(0,-36) 20(0,-38)
F.SilkS:
  lines w0.254: 0,1.06 1.06,1.06 1.06,0 ; -1.06,-39.06 1.06,-39.06 1.06,-1 -1.06,-1 -1.06,-39.06
Top Assembly:
  lines w0.254: -1,-39 1,-39 1,0.5 0.5,1 -1,1 -1,-39
  text "'.Designator'" at 0.84,-23.047 h1
Top Courtyard:
  lines w0.254: -1.5,-39.5 1.5,-39.5 1.5,1.5 -1.5,1.5 -1.5,-39.5
Top Designator:
  text ".Designator" at -7.618,-19.508 h1.52

## PinSocket_1x20_P2.00mm_Vertical_SMD_Pin1Left [mm]
pads (20):
  rect 2x0.9 smd: 1(-1.6,19) 2(1.6,17) 3(-1.6,15) 4(1.6,13) 5(-1.6,11) 6(1.6,9) 7(-1.6,7) 8(1.6,5) 9(-1.6,3) 10(1.6,1) 11(-1.6,-1) 12(1.6,-3) 13(-1.6,-5) 14(1.6,-7) 15(-1.6,-9) 16(1.6,-11) 17(-1.6,-13) 18(1.6,-15) 19(-1.6,-17) 20(1.6,-19)
F.SilkS:
  lines w0.254: -2.54,19.71 -1.31,19.71 -1.31,20.36 1.31,20.36 1.31,17.71 ; -1.31,-17.71 -1.31,-20.36 1.31,-20.36 1.31,-19.71 ; -1.31,-16.29 -1.31,-13.71 ; -1.31,-12.29 -1.31,-9.71 ; -1.31,-8.29 -1.31,-5.71 ; -1.31,-4.29 -1.31,-1.71 ; -1.31,-0.29 -1.31,2.29 ; -1.31,3.71 -1.31,6.29 ; -1.31,7.71 -1.31,10.29 ; -1.31,11.71 -1.31,14.29 ; -1.31,15.71 -1.31,18.29 ; 1.31,-18.29 1.31,-15.71 ; 1.31,-14.29 1.31,-11.71 ; 1.31,-10.29 1.31,-7.71 ; 1.31,-6.29 1.31,-3.71 ; 1.31,-2.29 1.31,0.29 ; 1.31,1.71 1.31,4.29 ; 1.31,5.71 1.31,8.29 ; 1.31,9.71 1.31,12.29 ; 1.31,13.71 1.31,16.29
Top Assembly:
  lines w0.254: -1.25,-17.25 -2.1,-17.25 -2.1,-16.75 -1.25,-16.75 ; -1.25,-13.25 -2.1,-13.25 -2.1,-12.75 -1.25,-12.75 ; -1.25,-9.25 -2.1,-9.25 -2.1,-8.75 -1.25,-8.75 ; -1.25,-5.25 -2.1,-5.25 -2.1,-4.75 -1.25,-4.75 ; -1.25,-1.25 -2.1,-1.25 -2.1,-0.75 -1.25,-0.75 ; -1.25,2.75 -2.1,2.75 -2.1,3.25 -1.25,3.25 ; -1.25,6.75 -2.1,6.75 -2.1,7.25 -1.25,7.25 ; -1.25,10.75 -2.1,10.75 -2.1,11.25 -1.25,11.25 ; -1.25,14.75 -2.1,14.75 -2.1,15.25 -1.25,15.25 ; -1.25,18.75 -2.1,18.75 -2.1,19.25 -1.25,19.25 ; 1.25,-19.25 2.1,-19.25 2.1,-18.75 1.25,-18.75 ; 1.25,-15.25 2.1,-15.25 2.1,-14.75 1.25,-14.75 ; 1.25,-11.25 2.1,-11.25 2.1,-10.75 1.25,-10.75 ; 1.25,-7.25 2.1,-7.25 2.1,-6.75 1.25,-6.75 ; 1.25,-3.25 2.1,-3.25 2.1,-2.75 1.25,-2.75 ; 1.25,0.75 2.1,0.75 2.1,1.25 1.25,1.25 ; 1.25,4.75 2.1,4.75 2.1,5.25 1.25,5.25 ; 1.25,8.75 2.1,8.75 2.1,9.25 1.25,9.25 ; 1.25,12.75 2.1,12.75 2.1,13.25 1.25,13.25 ; 1.25,16.75 2.1,16.75 2.1,17.25 1.25,17.25 ; -1.25,-20.3 1.25,-20.3 1.25,20.3 -0.625,20.3 -1.25,19.675 -1.25,-20.3
  text "'.Designator'" at 0.84,-4.047 h1
Top Courtyard:
  lines w0.254: -3.1,-20.8 3.1,-20.8 3.1,20.8 -3.1,20.8 -3.1,-20.8
Top Designator:
  text ".Designator" at -7.618,-0.508 h1.52

## PinSocket_1x20_P2.00mm_Vertical_SMD_Pin1Right [mm]
pads (20):
  rect 2x0.9 smd: 1(1.6,19) 2(-1.6,17) 3(1.6,15) 4(-1.6,13) 5(1.6,11) 6(-1.6,9) 7(1.6,7) 8(-1.6,5) 9(1.6,3) 10(-1.6,1) 11(1.6,-1) 12(-1.6,-3) 13(1.6,-5) 14(-1.6,-7) 15(1.6,-9) 16(-1.6,-11) 17(1.6,-13) 18(-1.6,-15) 19(1.6,-17) 20(-1.6,-19)
F.SilkS:
  lines w0.254: -1.31,-19.71 -1.31,-20.36 1.31,-20.36 1.31,-17.71 ; -1.31,-18.29 -1.31,-15.71 ; -1.31,-14.29 -1.31,-11.71 ; -1.31,-10.29 -1.31,-7.71 ; -1.31,-6.29 -1.31,-3.71 ; -1.31,-2.29 -1.31,0.29 ; -1.31,1.71 -1.31,4.29 ; -1.31,5.71 -1.31,8.29 ; -1.31,9.71 -1.31,12.29 ; -1.31,13.71 -1.31,16.29 ; -1.31,17.71 -1.31,20.36 1.31,20.36 1.31,19.71 2.54,19.71 ; 1.31,-16.29 1.31,-13.71 ; 1.31,-12.29 1.31,-9.71 ; 1.31,-8.29 1.31,-5.71 ; 1.31,-4.29 1.31,-1.71 ; 1.31,-0.29 1.31,2.29 ; 1.31,3.71 1.31,6.29 ; 1.31,7.71 1.31,10.29 ; 1.31,11.71 1.31,14.29 ; 1.31,15.71 1.31,18.29
Top Assembly:
  lines w0.254: -1.25,-19.25 -2.1,-19.25 -2.1,-18.75 -1.25,-18.75 ; -1.25,-15.25 -2.1,-15.25 -2.1,-14.75 -1.25,-14.75 ; -1.25,-11.25 -2.1,-11.25 -2.1,-10.75 -1.25,-10.75 ; -1.25,-7.25 -2.1,-7.25 -2.1,-6.75 -1.25,-6.75 ; -1.25,-3.25 -2.1,-3.25 -2.1,-2.75 -1.25,-2.75 ; -1.25,0.75 -2.1,0.75 -2.1,1.25 -1.25,1.25 ; -1.25,4.75 -2.1,4.75 -2.1,5.25 -1.25,5.25 ; -1.25,8.75 -2.1,8.75 -2.1,9.25 -1.25,9.25 ; -1.25,12.75 -2.1,12.75 -2.1,13.25 -1.25,13.25 ; -1.25,16.75 -2.1,16.75 -2.1,17.25 -1.25,17.25 ; 1.25,-17.25 2.1,-17.25 2.1,-16.75 1.25,-16.75 ; 1.25,-13.25 2.1,-13.25 2.1,-12.75 1.25,-12.75 ; 1.25,-9.25 2.1,-9.25 2.1,-8.75 1.25,-8.75 ; 1.25,-5.25 2.1,-5.25 2.1,-4.75 1.25,-4.75 ; 1.25,-1.25 2.1,-1.25 2.1,-0.75 1.25,-0.75 ; 1.25,2.75 2.1,2.75 2.1,3.25 1.25,3.25 ; 1.25,6.75 2.1,6.75 2.1,7.25 1.25,7.25 ; 1.25,10.75 2.1,10.75 2.1,11.25 1.25,11.25 ; 1.25,14.75 2.1,14.75 2.1,15.25 1.25,15.25 ; 1.25,18.75 2.1,18.75 2.1,19.25 1.25,19.25 ; -1.25,-20.3 1.25,-20.3 1.25,19.675 0.625,20.3 -1.25,20.3 -1.25,-20.3
  text "'.Designator'" at 0.84,-4.047 h1
Top Courtyard:
  lines w0.254: -3.1,-20.8 3.1,-20.8 3.1,20.8 -3.1,20.8 -3.1,-20.8
Top Designator:
  text ".Designator" at -7.618,-0.508 h1.52

## PinSocket_1x21_P2.00mm_Horizontal [mm]
pads (21):
  rect 1.35x1.35 hole 0.8: 1(0,0)
  round 1.35 hole 0.8: 2(0,-2) 3(0,-4) 4(0,-6) 5(0,-8) 6(0,-10) 7(0,-12) 8(0,-14) 9(0,-16) 10(0,-18) 11(0,-20) 12(0,-22) 13(0,-24) 14(0,-26) 15(0,-28) 16(0,-30) 17(0,-32) 18(0,-34) 19(0,-36) 20(0,-38) 21(0,-40)
F.SilkS:
  lines w0.254: -7.68,-39 -1.21,-39 ; -7.68,-37 -1.21,-37 ; -7.68,-35 -1.21,-35 ; -7.68,-33 -1.21,-33 ; -7.68,-31 -1.21,-31 ; -7.68,-29 -1.21,-29 ; -7.68,-27 -1.21,-27 ; -7.68,-25 -1.21,-25 ; -7.68,-23 -1.21,-23 ; -7.68,-21 -1.21,-21 ; -7.68,-19 -1.21,-19 ; -7.68,-17 -1.21,-17 ; -7.68,-15 -1.21,-15 ; -7.68,-13 -1.21,-13 ; -7.68,-11 -1.21,-11 ; -7.68,-9 -1.21,-9 ; -7.68,-7 -1.21,-7 ; -7.68,-5 -1.21,-5 ; -7.68,-3 -1.21,-3 ; -7.68,-1 -1.21,-1 ; -7.68,-0.886 -1.21,-0.886 ; -7.68,-0.772 -1.21,-0.772 ; -7.68,-0.658 -1.21,-0.658 ; -7.68,-0.544 -1.21,-0.544 ; -7.68,-0.429 -1.21,-0.429 ; -7.68,-0.315 -1.21,-0.315 ; -7.68,-0.201 -1.21,-0.201 ; -7.68,-0.087 -1.21,-0.087 ; -7.68,0.027 -1.21,0.027 ; -7.68,0.141 -1.21,0.141 ; -7.68,0.255 -1.21,0.255 ; -7.68,0.369 -1.21,0.369 ; -7.68,0.484 -1.21,0.484 ; -7.68,0.598 -1.21,0.598 ; -7.68,0.712 -1.21,0.712 ; -7.68,0.826 -1.21,0.826 ; -7.68,0.94 -1.21,0.94 ; -1.21,-40.36 -0.863,-40.36 ; -1.21,-39.64 -0.863,-39.64 ; -1.21,-38.36 -0.863,-38.36 ; -1.21,-37.64 -0.863,-37.64 ; -1.21,-36.36 -0.863,-36.36 ; -1.21,-35.64 -0.863,-35.64 ; -1.21,-34.36 -0.863,-34.36 ; -1.21,-33.64 -0.863,-33.64 ; -1.21,-32.36 -0.863,-32.36 ; -1.21,-31.64 -0.863,-31.64 ; -1.21,-30.36 -0.863,-30.36 ; -1.21,-29.64 -0.863,-29.64 ; -1.21,-28.36 -0.863,-28.36 ; -1.21,-27.64 -0.863,-27.64 ; -1.21,-26.36 -0.863,-26.36 ; -1.21,-25.64 -0.863,-25.64 ; -1.21,-24.36 -0.863,-24.36 ; -1.21,-23.64 -0.863,-23.64 ; -1.21,-22.36 -0.863,-22.36 ; -1.21,-21.64 -0.863,-21.64 ; -1.21,-20.36 -0.863,-20.36 ; -1.21,-19.64 -0.863,-19.64 ; -1.21,-18.36 -0.863,-18.36 ; -1.21,-17.64 -0.863,-17.64 ; -1.21,-16.36 -0.863,-16.36 ; -1.21,-15.64 -0.863,-15.64 ; -1.21,-14.36 -0.863,-14.36 ; -1.21,-13.64 -0.863,-13.64 ; -1.21,-12.36 -0.863,-12.36 ; -1.21,-11.64 -0.863,-11.64 ; -1.21,-10.36 -0.863,-10.36 ; -1.21,-9.64 -0.863,-9.64 ; -1.21,-8.36 -0.863,-8.36 ; -1.21,-7.64 -0.863,-7.64 ; -1.21,-6.36 -0.863,-6.36 ; -1.21,-5.64 -0.863,-5.64 ; -1.21,-4.36 -0.863,-4.36 ; -1.21,-3.64 -0.863,-3.64 ; -1.21,-2.36 -0.863,-2.36 ; -1.21,-1.64 -0.863,-1.64 ; -1.21,-0.36 -0.935,-0.36 ; -1.21,0.36 -0.935,0.36 ; 0,1.06 0.935,1.06 0.935,0 ; -7.68,-41.06 -1.21,-41.06 -1.21,1.06 -7.68,1.06 -7.68,-41.06
Top Assembly:
  lines w0.254: -1.27,-40.3 0,-40.3 0,-39.7 -1.27,-39.7 ; -1.27,-38.3 0,-38.3 0,-37.7 -1.27,-37.7 ; -1.27,-36.3 0,-36.3 0,-35.7 -1.27,-35.7 ; -1.27,-34.3 0,-34.3 0,-33.7 -1.27,-33.7 ; -1.27,-32.3 0,-32.3 0,-31.7 -1.27,-31.7 ; -1.27,-30.3 0,-30.3 0,-29.7 -1.27,-29.7 ; -1.27,-28.3 0,-28.3 0,-27.7 -1.27,-27.7 ; -1.27,-26.3 0,-26.3 0,-25.7 -1.27,-25.7 ; -1.27,-24.3 0,-24.3 0,-23.7 -1.27,-23.7 ; -1.27,-22.3 0,-22.3 0,-21.7 -1.27,-21.7 ; -1.27,-20.3 0,-20.3 0,-19.7 -1.27,-19.7 ; -1.27,-18.3 0,-18.3 0,-17.7 -1.27,-17.7 ; -1.27,-16.3 0,-16.3 0,-15.7 -1.27,-15.7 ; -1.27,-14.3 0,-14.3 0,-13.7 -1.27,-13.7 ; -1.27,-12.3 0,-12.3 0,-11.7 -1.27,-11.7 ; -1.27,-10.3 0,-10.3 0,-9.7 -1.27,-9.7 ; -1.27,-8.3 0,-8.3 0,-7.7 -1.27,-7.7 ; -1.27,-6.3 0,-6.3 0,-5.7 -1.27,-5.7 ; -1.27,-4.3 0,-4.3 0,-3.7 -1.27,-3.7 ; -1.27,-2.3 0,-2.3 0,-1.7 -1.27,-1.7 ; -1.27,-0.3 0,-0.3 0,0.3 -1.27,0.3 ; -1.27,0.3 -1.27,-41 -7.62,-41 -7.62,1 -1.97,1 -1.27,0.3
  text "'.Designator'" at -3.605,-24.047 h1
Top Courtyard:
  lines w0.254: -8.15,-41.5 1.5,-41.5 1.5,1.5 -8.15,1.5 -8.15,-41.5
Top Designator:
  text ".Designator" at -10.943,-20.508 h1.52

## PinSocket_1x21_P2.00mm_Vertical [mm]
pads (21):
  rect 1.35x1.35 hole 0.8: 1(0,0)
  round 1.35 hole 0.8: 2(0,-2) 3(0,-4) 4(0,-6) 5(0,-8) 6(0,-10) 7(0,-12) 8(0,-14) 9(0,-16) 10(0,-18) 11(0,-20) 12(0,-22) 13(0,-24) 14(0,-26) 15(0,-28) 16(0,-30) 17(0,-32) 18(0,-34) 19(0,-36) 20(0,-38) 21(0,-40)
F.SilkS:
  lines w0.254: 0,1.06 1.06,1.06 1.06,0 ; -1.06,-41.06 1.06,-41.06 1.06,-1 -1.06,-1 -1.06,-41.06
Top Assembly:
  lines w0.254: -1,-41 1,-41 1,0.5 0.5,1 -1,1 -1,-41
  text "'.Designator'" at 0.84,-24.047 h1
Top Courtyard:
  lines w0.254: -1.5,-41.5 1.5,-41.5 1.5,1.5 -1.5,1.5 -1.5,-41.5
Top Designator:
  text ".Designator" at -7.618,-20.508 h1.52